# EAGLE library part *2G66 (library apbteam_logic)
Double bilateral ANALOG SWITCH
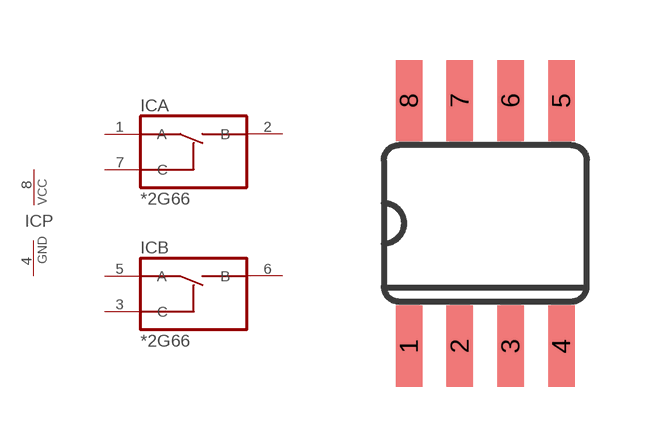
[diagram p1: symbol with the pads of SO8; footprint SO8]

Designator prefix IC; gates A=4066 B=4066 P=PWRN

## 74HC2G66DCT  [SO8]
1  A:A  hiz
2  A:B  hiz
3  B:C  in
4  P:GND  pwr
5  B:A  hiz
6  B:B  hiz
7  A:C  in
8  P:VCC  pwr

## Footprint SO8 (pad centres in mm)
smd 0.66 x 2.032: 1 -1.905,-3.073; 2 -0.635,-3.073; 3 0.635,-3.073; 4 1.905,-3.073; 5 1.905,3.073; 6 0.635,3.073; 7 -0.635,3.073; 8 -1.905,3.073